# Altium schematic symbol library WE-AGDT.SchLib: 14 symbols
Pins are listed as number, name and electrical type; pins without a type are passive.

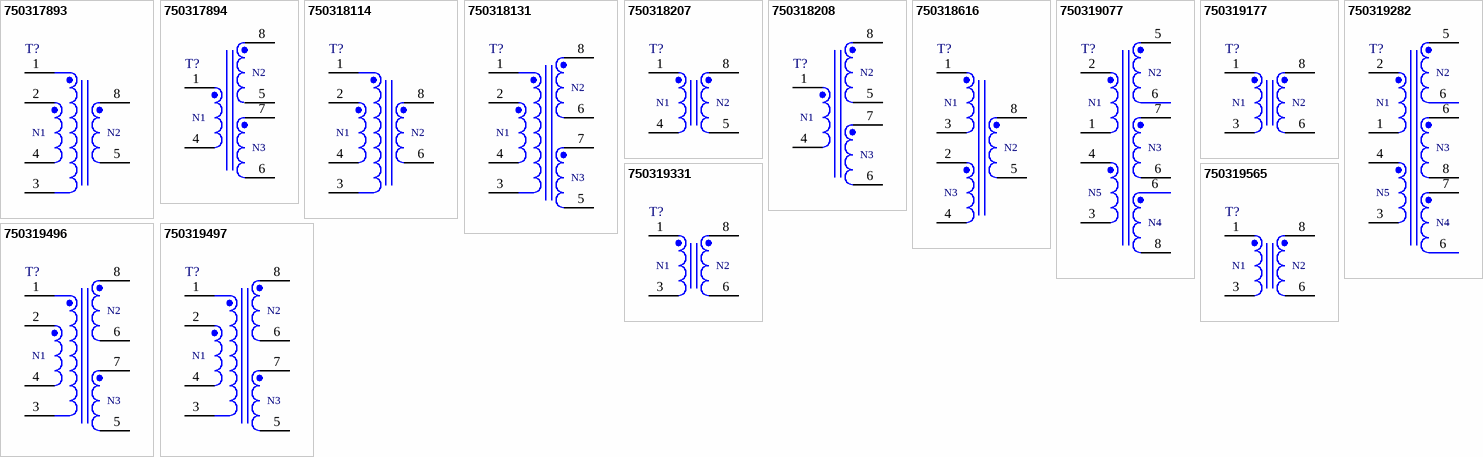
[diagram p0: symbols 750317893 to 750319565]

## 750317893
designator T?
pins: 1, 2, 3, 4, 5, 8
text: N1; N2

## 750317894
designator T?
pins: 1, 4, 5, 6, 7, 8
text: N2; N1; N3

## 750318114
designator T?
pins: 1, 2, 3, 4, 6, 8
text: N1; N2

## 750318131
designator T?
pins: 1, 2, 3, 4, 5, 6, 7, 8
text: N2; N1; N3

## 750318207
designator T?
pins: 1, 4, 5, 8
text: N1; N2

## 750318208
designator T?
pins: 1, 4, 5, 6, 7, 8
text: N2; N1; N3

## 750318616
designator T?
pins: 1, 2, 3, 4, 5, 8
text: N1; N2; N3

## 750319077
designator T?
pins: 1, 2, 3, 4, 5, 6, 7, 8
text: N2; N1; N3; N5; N4

## 750319177
designator T?
pins: 1, 3, 6, 8
text: N1; N2

## 750319282
designator T?
pins: 1, 2, 3, 4, 5, 6, 7, 8
text: N2; N1; N3; N5; N4

## 750319331
designator T?
pins: 1, 3, 6, 8
text: N1; N2

## 750319496
designator T?
pins: 1, 2, 3, 4, 5, 6, 7, 8
text: N2; N1; N3

## 750319497
designator T?
pins: 1, 2, 3, 4, 5, 6, 7, 8
text: N2; N1; N3

## 750319565
designator T?
pins: 1, 3, 6, 8
text: N1; N2